# EAGLE library part C8051F310/2/4 (library silicon-labs)
MICROCONTROLLER 8/16 kB ISP Flash MCU Family C8051F310/1/2/3/4/5/6/7 CROSSBAR
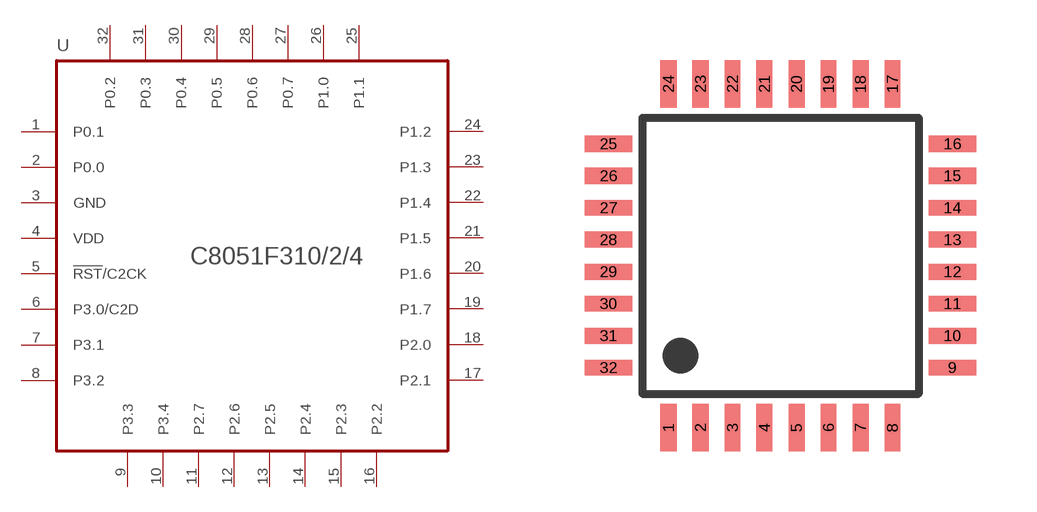
[diagram p2: symbol with the pads of LQFP-7X7-32; footprint LQFP-7X7-32]

Designator prefix U

## C8051F310/2/4  [LQFP-7X7-32]
1  P0.1
2  P0.0
3  GND  pwr
4  VDD  pwr
5  !RST!/C2CK
6  P3.0/C2D
7  P3.1
8  P3.2
9  P3.3
10  P3.4
11  P2.7
12  P2.6
13  P2.5
14  P2.4
15  P2.3
16  P2.2
17  P2.1
18  P2.0
19  P1.7
20  P1.6
21  P1.5
22  P1.4
23  P1.3
24  P1.2
25  P1.1
26  P1.0
27  P0.7
28  P0.6
29  P0.5
30  P0.4
31  P0.3
32  P0.2

## Footprint LQFP-7X7-32 (pad centres in mm)
LQFP-32 package 7x7 mm case, 0.8 mm lead pitch
smd 0.4 x 1.2: 1 -2.8,-4.3; 2 -2,-4.3; 3 -1.2,-4.3; 4 -0.4,-4.3; 5 0.4,-4.3; 6 1.2,-4.3; 7 2,-4.3; 8 2.8,-4.3; 17 2.8,4.3; 18 2,4.3; 19 1.2,4.3; 20 0.4,4.3; 21 -0.4,4.3; 22 -1.2,4.3; 23 -2,4.3; 24 -2.8,4.3
smd 1.2 x 0.4: 9 4.3,-2.8; 10 4.3,-2; 11 4.3,-1.2; 12 4.3,-0.4; 13 4.3,0.4; 14 4.3,1.2; 15 4.3,2; 16 4.3,2.8; 25 -4.3,2.8; 26 -4.3,2; 27 -4.3,1.2; 28 -4.3,0.4; 29 -4.3,-0.4; 30 -4.3,-1.2; 31 -4.3,-2; 32 -4.3,-2.8